# Altium schematic symbol library analog_devices.SchLib: 1 symbol
Pins are listed as number, name and electrical type; pins without a type are passive.

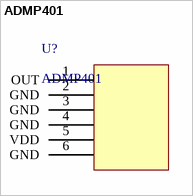
[diagram p0: symbol ADMP401]

## ADMP401
designator U?
Microphone
footprint PCBComponent_1
pins: 1 OUT, 2 GND, 3 GND, 4 GND, 5 VDD, 6 GND